# EAGLE library part FPC/FFC-08-1.0 (library Bits_library_eagle)
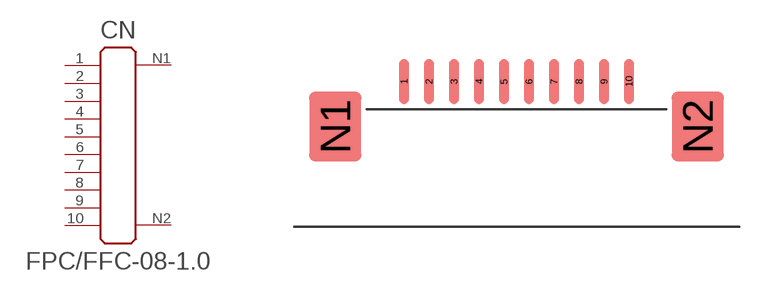
[diagram p55: symbol with the pads of F52R-1A7H1-11008; footprint F52R-1A7H1-11008]

Designator prefix CN

## FPC/FFC-08-1.0  [F52R-1A7H1-11008]
1  1
2  2
3  3
4  4
5  5
6  6
7  7
8  8
9  9
10  10
N1  N1
N2  N2

## Footprint F52R-1A7H1-11008 (pad centres in mm)
smd 0.4 x 1.8: 1 -4.5,0.3; 2 -3.5,0.3; 3 -2.5,0.3; 4 -1.5,0.3; 5 -0.5,0.3; 6 0.5,0.3; 7 1.5,0.3; 8 2.5,0.3; 9 3.5,0.3; 10 4.5,0.3
smd 2.1 x 2.8: N1 -7.25,-1.5; N2 7.25,-1.5